# Altium schematic symbol library 2.54mm Pitch Breakaway Schematic Lib.SchLib: 12 symbols
Pins are listed as number, name and electrical type; pins without a type are passive.

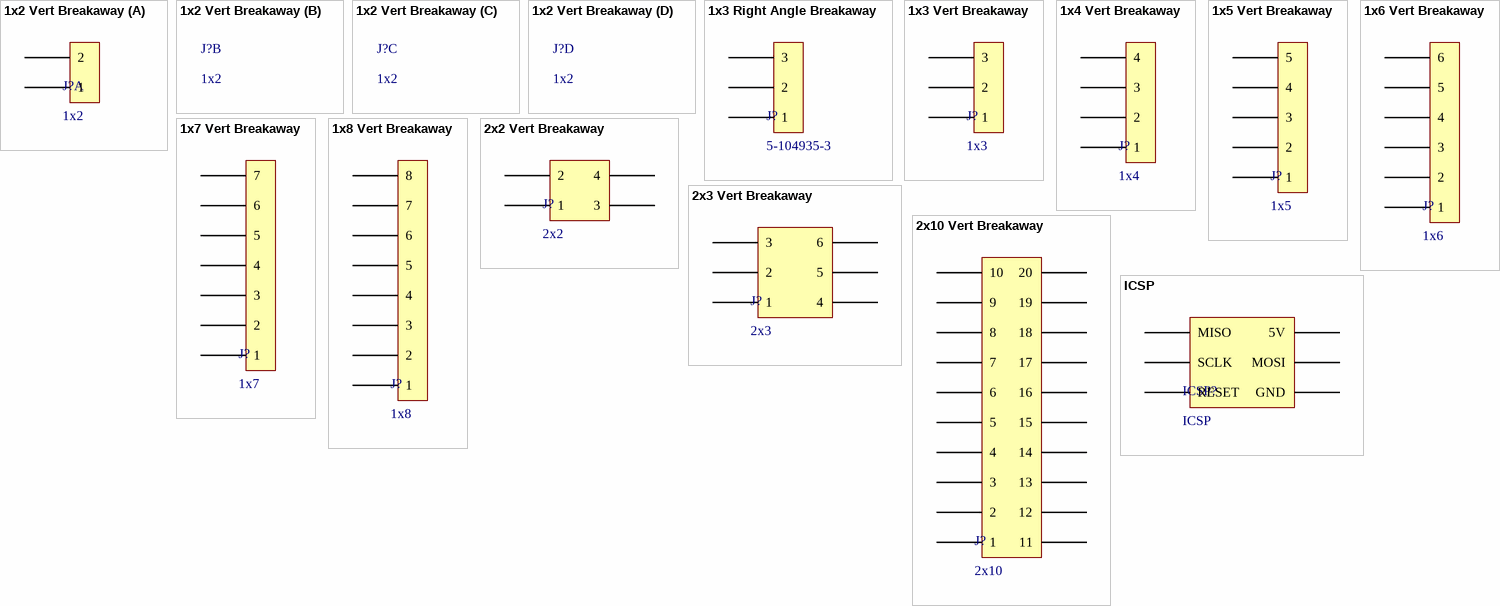
[diagram p0: symbols 1x2 Vert Breakaway to ICSP]

## 1x2 Vert Breakaway
designator J?, comment 1x2
DNI: DNI; DNP: DNP
footprint 1x2 Breakaway Vertical (Pin Header, pitch 2.54 mm, THT, Vertical, single row, 2p)
part A pins: 1, 2

## 1x3 Right Angle Breakaway
designator J?, comment 5-104935-3
Manufacturer: TE; MPN: 5-104935-3; DNI: DNI; DNP: DNP
footprint 1x3 Breakaway Right Angle
pins: 1, 2, 3

## 1x3 Vert Breakaway
designator J?, comment 1x3
DNI: DNI; DNP: DNP
footprint 1x3 Breakaway Vertical
pins: 1, 2, 3

## 1x4 Vert Breakaway
designator J?, comment 1x4
DNI: DNI; DNP: DNP
footprint 1x4 Breakaway Vertical (Pin Header, pitch 2.54 mm, THT, Vertical, single row, 4p)
pins: 1, 2, 3, 4

## 1x5 Vert Breakaway
designator J?, comment 1x5
DNI: DNI; DNP: DNP
footprint 1x5 Breakaway Vertical (.025 SQ Post Terminal Strip Assembly, 1x5 Pins, Vertical, 2.54mm Pitch, Male)
pins: 1, 2, 3, 4, 5

## 1x6 Vert Breakaway
designator J?, comment 1x6
DNI: DNI; DNP: DNP
footprint 1x6 Breakaway Vertical (.025 SQ Post Terminal Strip Assembly, 1x6 Pins, Vertical, 2.54mm Pitch, Male)
pins: 1, 2, 3, 4, 5, 6

## 1x7 Vert Breakaway
designator J?, comment 1x7
DNI: DNI; DNP: DNP
footprint 1x7 Breakaway Vertical (.025 SQ Post Terminal Strip Assembly, 1x7 Pins, Vertical, 2.54mm Pitch, Male)
pins: 1, 2, 3, 4, 5, 6, 7

## 1x8 Vert Breakaway
designator J?, comment 1x8
DNI: DNI; DNP: DNP
footprint 1x8 Breakaway Vertical
pins: 1, 2, 3, 4, 5, 6, 7, 8

## 2x2 Vert Breakaway
designator J?, comment 2x2
DNI: DNI; DNP: DNP
footprint 2x2 Breakaway Vertical
pins: 1, 2, 3, 4

## 2x3 Vert Breakaway
designator J?, comment 2x3
DNI: DNI; DNP: DNP
footprint 2x3 Breakaway Vertical
pins: 1, 2, 3, 4, 5, 6

## 2x10 Vert Breakaway
designator J?, comment 2x10
DNI: DNI; DNP: DNP
footprint 2x10 Breakaway Vertical
pins: 1, 2, 3, 4, 5, 6, 7, 8, 9, 10, 11, 12, 13, 14, 15, 16, 17, 18, 19, 20

## ICSP
designator ICSP?
DNI: DNI; DNP: DNP
footprint 2x3 Breakaway Vertical
pins: 1 RESET, 2 SCLK, 3 MISO, 4 GND, 5 MOSI, 6 5V